# EAGLE library part TPS62175 (library ICs)
DC-DC Switching Buck Step Down Regulator, Adjustable, 4.75V-28Vin, 1V-6Vout, 0.5Aout, WSON-10
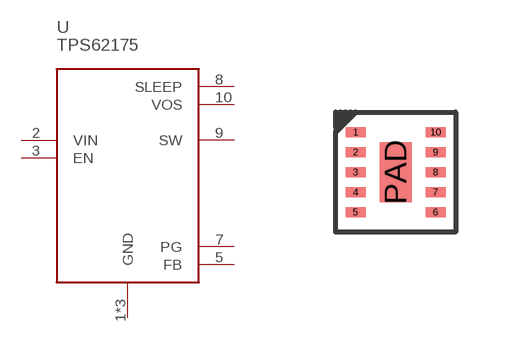
[diagram p125: symbol with the pads of WSON10; footprint WSON10]

Designator prefix U

## TPS62175DQCT (FARNELL: 2255013; PRICE_PER: 1.45; VALUE: TPS62175)  [WSON10]
1  GND
2  VIN
3  EN
5  FB
6  GND
7  PG
8  SLEEP
9  SW
10  VOS
PAD  GND

## Footprint WSON10 (pad centres in mm)
smd 0.5 x 0.25: 1 -1,1; 2 -1,0.5; 3 -1,0; 4 -1,-0.5; 5 -1,-1; 6 1,-1; 7 1,-0.5; 8 1,0; 9 1,0.5; 10 1,1
smd 0.8 x 1.5: PAD 0,0